# EAGLE library part HA3-5320-5 (library Intersil_By_element14_Batch_1)
1 Microsecond Precision Sample and Hold Amplifier
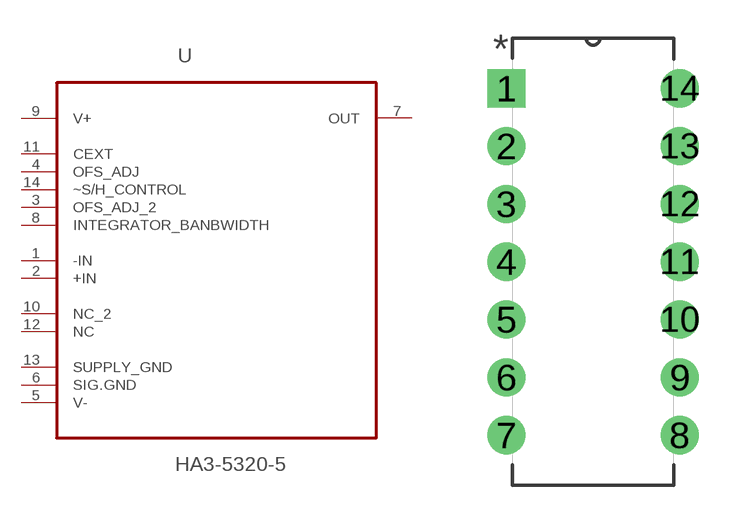
[diagram p94: symbol with the pads of DIP254P762X533-14; footprint DIP254P762X533-14]

Designator prefix U

## HA3-5320-5 (MPN: HA3-5320-5; OC_FARNELL: -; OC_NEWARK: 05B6370; PACKAGE: PDIP-14; SUPPLIER: Intersil)  [DIP254P762X533-14]
1  -IN  in
2  +IN  in
3  OFS_ADJ_2  in
4  OFS_ADJ  in
5  V-  pwr
6  SIG.GND  pas
7  OUT  out
8  INTEGRATOR_BANBWIDTH  pas
9  V+  pwr
10  NC_2  nc
11  CEXT  pas
12  NC  nc
13  SUPPLY_GND  pas
14  ~S/H_CONTROL  pas

## Footprint DIP254P762X533-14 (pad centres in mm)
drill 1.118 square: 1 -7.62,15.24
drill 1.118: 2 -7.62,12.7; 3 -7.62,10.16; 4 -7.62,7.62; 5 -7.62,5.08; 6 -7.62,2.54; 7 -7.62,0; 8 0,0; 9 0,2.54; 10 0,5.08; 11 0,7.62; 12 0,10.16; 13 0,12.7; 14 0,15.24